# EAGLE library part MPT12 (library pluggable_terminal_blocks)
PHOENIX CONNECTOR
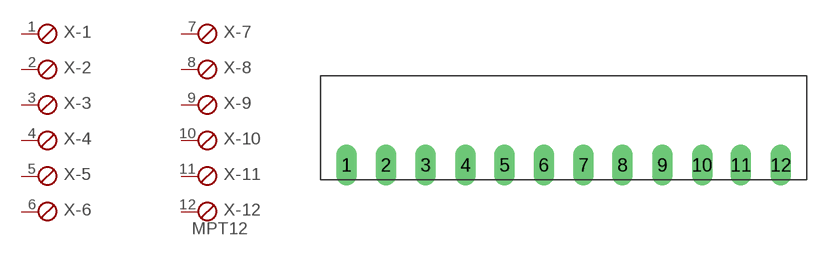
[diagram p5: symbol with the pads of 12POL35; footprint 12POL35]

Designator prefix X; gates -1=SKB -2=SKB -3=SKB -4=SKB -5=SKB -6=SKB -7=SKB -8=SKB -9=SKB -10=SKB -11=SKB -12=SKBV

## MPT12  [12POL35]
1  -1:1  pas
2  -2:1  pas
3  -3:1  pas
4  -4:1  pas
5  -5:1  pas
6  -6:1  pas
7  -7:1  pas
8  -8:1  pas
9  -9:1  pas
10  -10:1  pas
11  -11:1  pas
12  -12:1  pas

## Footprint 12POL35 (pad centres in mm)
PHOENIX CONNECTOR
drill 1.2 long: 1 -19.27,0; 2 -15.78,0; 3 -12.24,0; 4 -8.7,0; 5 -5.26,0; 6 -1.77,0; 7 1.77,0; 8 5.21,0; 9 8.75,0; 10 12.29,0; 11 15.73,0; 12 19.27,0